# Altium footprint library 220 TO 5.PcbLib: 1 footprints
Each footprint in its own frame and in the unit in brackets; x right, y up, seen from the top. Pads: shape width x height; smd on the part's side, far side on the other; paste and mask are expansions set on the pad; w line width, h text height; cw(c..) or ccw(c..) is an arc to the next point about the centre after c.
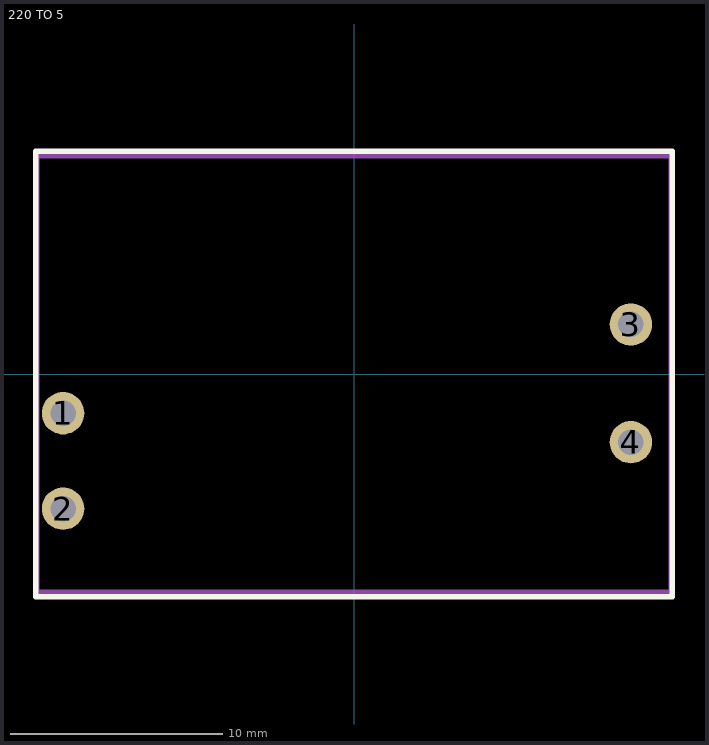
[diagram p0: the footprint, top view; thin cyan lines are the x and y axes]

## 220 TO 5 [mm]
pads (4):
  round 2 hole 1.2: 1(-13.716,-1.85) 2(-13.716,-6.35) 3(13.055,2.335) 4(13.055,-3.215)
Top Overlay:
  lines w0.254: -15,-10.5 15,-10.5 15,10.5 -15,10.5 -15,-10.5
Mechanical 1:
  lines w0.254: -14.945,-10.285 14.945,-10.285 14.945,10.285 -14.945,10.285 -14.945,-10.285
3D body "220ACto5VDC.SLDPRT": height 16.22, standoff -0.2, extent -15,-10.5 15,10.5